# Altium integrated library Analog Devices Data Converters Digital-to-Analog Converters.IntLib: 2231 symbols (part 130 of 181)
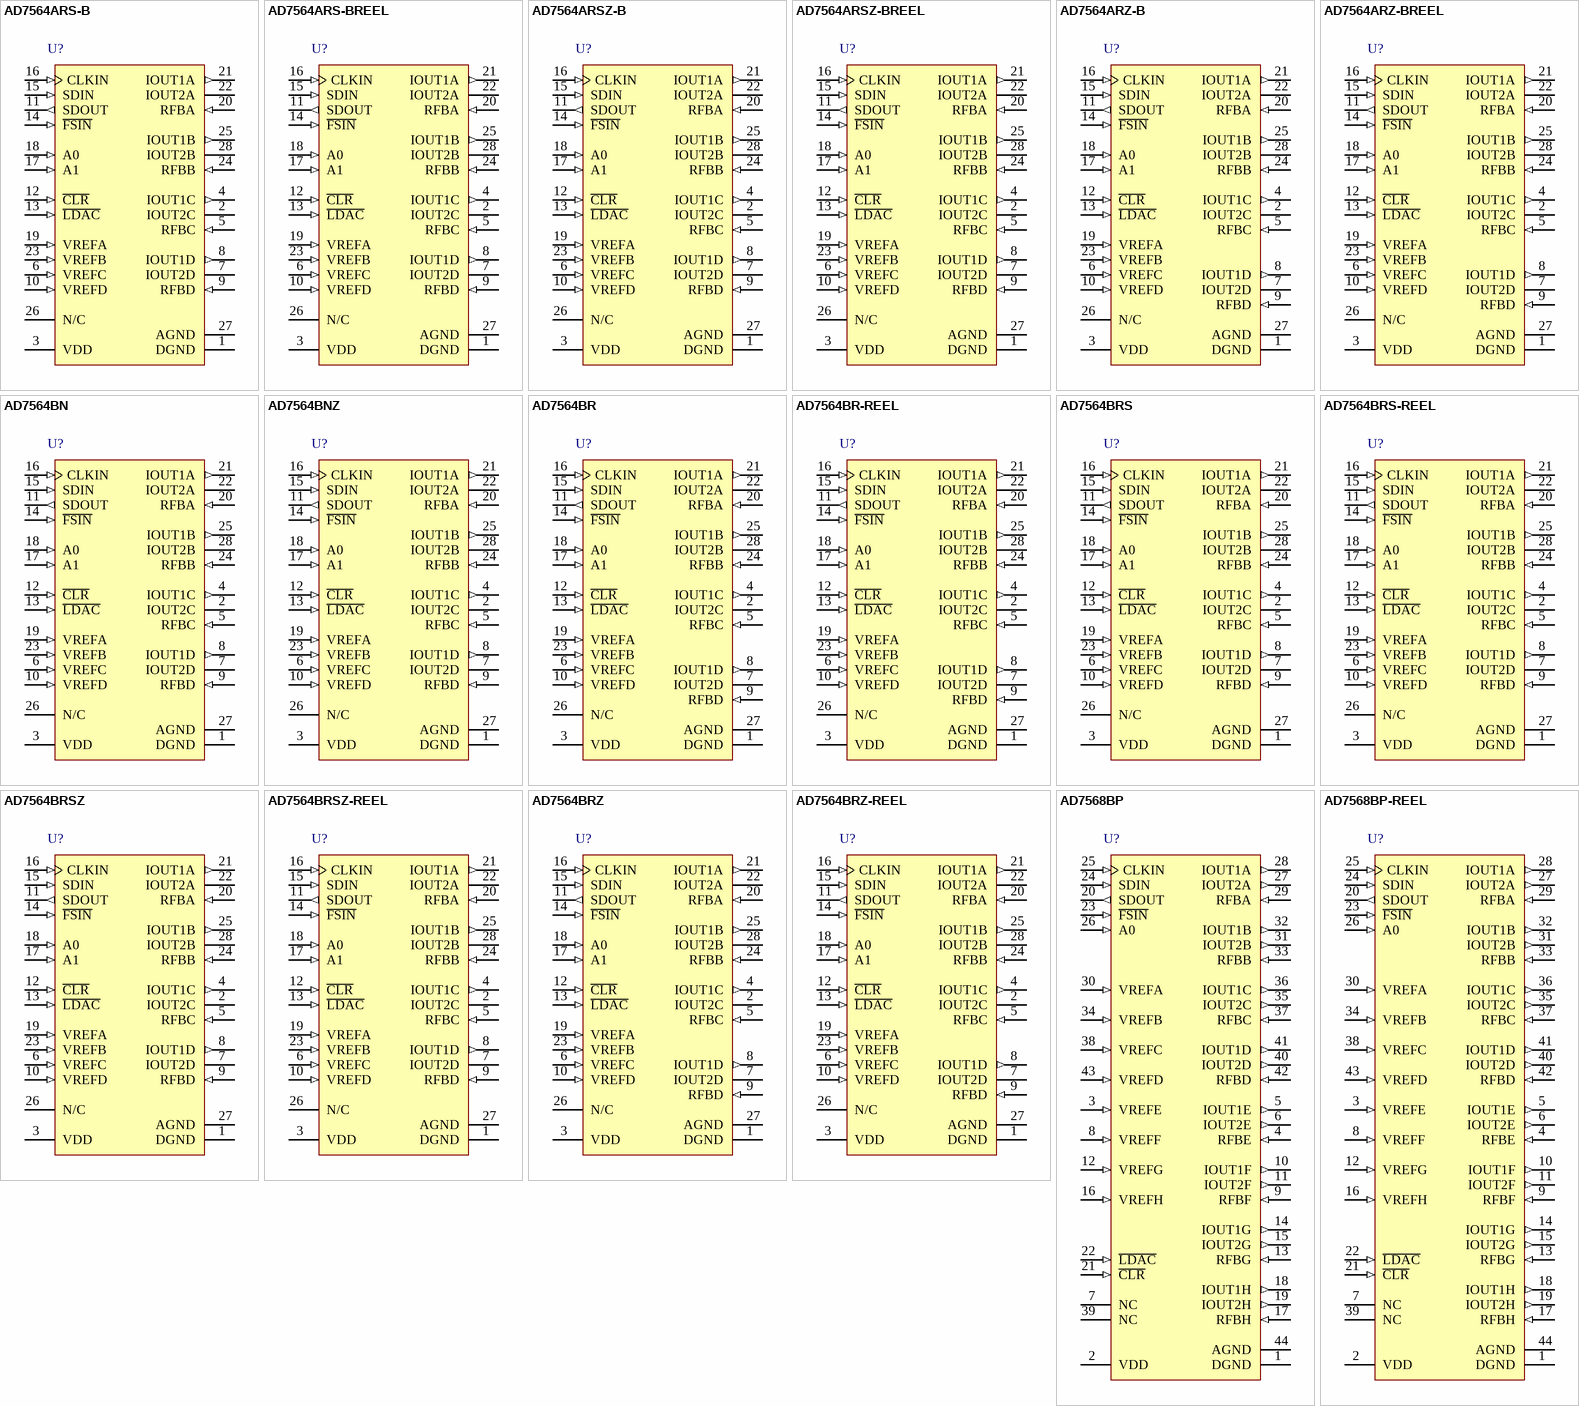
[diagram p243: symbols AD7564ARS-B to AD7568BP-REEL]

## AD7564ARSZ-B
designator U?
Quad 12-Bit Low Power Digital-to-Analog Converter, 3.3 V / 5 V, -40 to +85 degC, RS-28, Pb-Free, Tube; Generic Part Number: AD7564; Manufacturer: Analog Devices; PartNumber: AD7564ARSZ-B; # DAC Outputs: 4; Max V+: 5.5V; Op Pwr Diss: 50µW; Resolution (Bits): 12; Settling Time: 550ns; Single Supply: Yes; DatasheetVersion: Rev.B; PackageVersion: 060106-A; PackageReference: RS-28; PackageDescription: 28-Lead Shrink Small Outline Package [SSOP]; Supplier 1: Digi-Key; Supplier Part Number 1: AD7564ARSZ-B-ND; Supplier 2: Newark; Supplier Part Number 2: 59K5046; Supplier 3: Mouser; Supplier Part Number 3: 584-AD7564ARSZ-B; Packing: Tube; RoHS: Y; Mounting Technology: Surface Mount; Code_JEDEC: MO-150-AH; ComponentLink1Description: Manufacturer URL; ComponentLink1URL: http://www.analog.com/en/index.html; ComponentLink2Description: Datasheet; ComponentLink2URL: http://www.analog.com/static/imported-files/data_sheets/AD7564.pdf; ComponentLink3Description: Package Specification; ComponentLink3URL: http://www.analog.com/static/imported-files/packages/32122249223724RS_28.pdf; ComponentLink4Description: Product URL; ComponentLink4URL: http://www.analog.com/en/digital-to-analog-converters/da-converters/ad7564/products/product.html
footprint RS-28_N (SOP, 28-Leads, Body 10.2x5.3mm, Pitch 0.65mm, IPC Medium Density)
footprint RS-28_L (SOP, 28-Leads, Body 10.2x5.3mm, Pitch 0.65mm, IPC High Density)
footprint RS-28_M (SOP, 28-Leads, Body 10.2x5.3mm, Pitch 0.65mm, IPC Low Density)
pins: 1 DGND (power) "Digital Ground.", 2 IOUT2C "IOUT2 terminal for DAC C. This should normally connect to the signal ground of the system.", 3 VDD (power) "Positive power supply. This is +5 V +/- 5%.", 4 IOUT1C (out) "IOUT1 terminal for DAC C.", 5 RFBC (in) "Feedback resistor for DAC C.", 6 VREFC (in) "DAC C reference input.", 7 IOUT2D "IOUT2 terminal for DAC D. This should normally connect to the signal ground of the system.", 8 IOUT1D (out) "IOUT1 terminal for DAC D.", 9 RFBD (in) "Feedback resistor for DAC D.", 10 VREFD (in) "DAC D reference input.", 11 SDOUT (out) "This shift register output allows multiple devices to be connected in a daisy chain configuration.", 12 ~{CLR} (in) "Asynchronous C\L\R\ input. When this input is taken low, all DAC latches are loaded with all 0s.", 13 ~{LDAC} (in) "Asynchronous L\D\A\C\ input. When this input is taken low, all DAC latches are simultaneously updated with the contents of the input latches.", 14 ~{FSIN} (in) "Level-triggered control input (active low). This is the frame synchronization signal for the input data. When F\S\I\N\ goes low, it enables the input shift register, and data is transferred on the falling edges of CLKIN. If (See Datasheet)", 15 SDIN (in) "Serial data input. The device accepts a 16-bit word. DB0 and DB1 are DAC select bits. DB2 and DB3 are device address bits. DB4 to DB15 contain the 12-bit data to be loaded to the selected DAC.", 16 CLKIN (in) "Clock Input. Data is clocked into the input shift register on the falling edges of CLKIN. Add a pull-down resistor on the clock line to avoid timing issues.", 17 A1 (in) "Device address pin. This input in association with A0 gives the device an address. If DB2 and DB3 of the serial input stream do not correspond to this address, the data which follows is ignored and not loaded to any input (See Datasheet)", 18 A0 (in) "Device address pin. This input in association with A1 gives the device an address.", 19 VREFA (in) "DAC A reference input.", 20 RFBA (in) "Feedback resistor for DAC A.", 21 IOUT1A (out) "IOUT1 terminal for DAC A.", 22 IOUT2A "IOUT2 terminal for DAC A. This should normally connect to the signal ground of the system.", 23 VREFB (in) "DAC B reference input.", 24 RFBB (in) "Feedback resistor for DAC B.", 25 IOUT1B (out) "IOUT1 terminal for DAC B.", 26 N/C "No Connect pin.", 27 AGND (power) "This pin connects to the back gates of the current steering switches. It should be connected to the signal ground of the system.", 28 IOUT2B "IOUT2 terminal for DAC B. This should normally connect to the signal ground of the system."

## AD7564ARSZ-BREEL
designator U?
Quad 12-Bit Low Power Digital-to-Analog Converter, 3.3 V / 5 V, -40 to +85 degC, RS-28, Pb-Free, Reel; Generic Part Number: AD7564; Manufacturer: Analog Devices; PartNumber: AD7564ARSZ-BREEL; # DAC Outputs: 4; Max V+: 5.5V; Op Pwr Diss: 50µW; Resolution (Bits): 12; Settling Time: 550ns; Single Supply: Yes; DatasheetVersion: Rev.B; PackageVersion: 060106-A; PackageReference: RS-28; PackageDescription: 28-Lead Shrink Small Outline Package [SSOP]; Supplier 1: Digi-Key; Supplier Part Number 1: AD7564ARSZ-BREEL-ND; Supplier 2: Newark; Supplier Part Number 2: 59K5047; Supplier 3: Mouser; Supplier Part Number 3: 584-AD7564ARSZ-BR; Packing: Reel; RoHS: Y; Mounting Technology: Surface Mount; Code_JEDEC: MO-150-AH; ComponentLink1Description: Manufacturer URL; ComponentLink1URL: http://www.analog.com/en/index.html; ComponentLink2Description: Datasheet; ComponentLink2URL: http://www.analog.com/static/imported-files/data_sheets/AD7564.pdf; ComponentLink3Description: Package Specification; ComponentLink3URL: http://www.analog.com/static/imported-files/packages/32122249223724RS_28.pdf; ComponentLink4Description: Product URL; ComponentLink4URL: http://www.analog.com/en/digital-to-analog-converters/da-converters/ad7564/products/product.html
footprint RS-28_N (SOP, 28-Leads, Body 10.2x5.3mm, Pitch 0.65mm, IPC Medium Density)
footprint RS-28_L (SOP, 28-Leads, Body 10.2x5.3mm, Pitch 0.65mm, IPC High Density)
footprint RS-28_M (SOP, 28-Leads, Body 10.2x5.3mm, Pitch 0.65mm, IPC Low Density)
pins: 1 DGND (power) "Digital Ground.", 2 IOUT2C "IOUT2 terminal for DAC C. This should normally connect to the signal ground of the system.", 3 VDD (power) "Positive power supply. This is +5 V +/- 5%.", 4 IOUT1C (out) "IOUT1 terminal for DAC C.", 5 RFBC (in) "Feedback resistor for DAC C.", 6 VREFC (in) "DAC C reference input.", 7 IOUT2D "IOUT2 terminal for DAC D. This should normally connect to the signal ground of the system.", 8 IOUT1D (out) "IOUT1 terminal for DAC D.", 9 RFBD (in) "Feedback resistor for DAC D.", 10 VREFD (in) "DAC D reference input.", 11 SDOUT (out) "This shift register output allows multiple devices to be connected in a daisy chain configuration.", 12 ~{CLR} (in) "Asynchronous C\L\R\ input. When this input is taken low, all DAC latches are loaded with all 0s.", 13 ~{LDAC} (in) "Asynchronous L\D\A\C\ input. When this input is taken low, all DAC latches are simultaneously updated with the contents of the input latches.", 14 ~{FSIN} (in) "Level-triggered control input (active low). This is the frame synchronization signal for the input data. When F\S\I\N\ goes low, it enables the input shift register, and data is transferred on the falling edges of CLKIN. If (See Datasheet)", 15 SDIN (in) "Serial data input. The device accepts a 16-bit word. DB0 and DB1 are DAC select bits. DB2 and DB3 are device address bits. DB4 to DB15 contain the 12-bit data to be loaded to the selected DAC.", 16 CLKIN (in) "Clock Input. Data is clocked into the input shift register on the falling edges of CLKIN. Add a pull-down resistor on the clock line to avoid timing issues.", 17 A1 (in) "Device address pin. This input in association with A0 gives the device an address. If DB2 and DB3 of the serial input stream do not correspond to this address, the data which follows is ignored and not loaded to any input (See Datasheet)", 18 A0 (in) "Device address pin. This input in association with A1 gives the device an address.", 19 VREFA (in) "DAC A reference input.", 20 RFBA (in) "Feedback resistor for DAC A.", 21 IOUT1A (out) "IOUT1 terminal for DAC A.", 22 IOUT2A "IOUT2 terminal for DAC A. This should normally connect to the signal ground of the system.", 23 VREFB (in) "DAC B reference input.", 24 RFBB (in) "Feedback resistor for DAC B.", 25 IOUT1B (out) "IOUT1 terminal for DAC B.", 26 N/C "No Connect pin.", 27 AGND (power) "This pin connects to the back gates of the current steering switches. It should be connected to the signal ground of the system.", 28 IOUT2B "IOUT2 terminal for DAC B. This should normally connect to the signal ground of the system."

## AD7564ARZ-B
designator U?
Quad 12-Bit Low Power Digital-to-Analog Converter, 3.3 V / 5 V, 0 to 70 degC, RW-28, Pb-Free, Tube; Generic Part Number: AD7564; Manufacturer: Analog Devices; PartNumber: AD7564ARZ-B; # DAC Outputs: 4; Max V+: 5.5V; Op Pwr Diss: 50µW; Resolution (Bits): 12; Settling Time: 550ns; Single Supply: Yes; DatasheetVersion: Rev.B; PackageVersion: 060706-A; PackageReference: RW-28; PackageDescription: 28-Lead Standard Small Outline Package [SOIC_W]; Supplier 1: Digi-Key; Supplier Part Number 1: AD7564ARZ-B-ND; Supplier 2: Mouser; Supplier Part Number 2: 584-AD7564ARZ-B; Packing: Tube; RoHS: Y; Mounting Technology: Surface Mount; Code_JEDEC: MS-013-AE; ComponentLink1Description: Manufacturer URL; ComponentLink1URL: http://www.analog.com/en/index.html; ComponentLink2Description: Datasheet; ComponentLink2URL: http://www.analog.com/static/imported-files/data_sheets/AD7564.pdf; ComponentLink3Description: Product URL; ComponentLink3URL: http://www.analog.com/en/digital-to-analog-converters/da-converters/ad7564/products/product.html
footprint RW-28_N (SOIC, 28-Leads, Body 17.9x7.5mm, Pitch 1.27mm, IPC Medium Density)
footprint RW-28_L (SOIC, 28-Leads, Body 17.9x7.5mm, Pitch 1.27mm, IPC High Density)
footprint RW-28_M (SOIC, 28-Leads, Body 17.9x7.5mm, Pitch 1.27mm, IPC Low Density)
pins: 1 DGND (power) "Digital Ground.", 2 IOUT2C "IOUT2 terminal for DAC C. This should normally connect to the signal ground of the system.", 3 VDD (power) "Positive power supply. This is +5 V +/- 5%.", 4 IOUT1C (out) "IOUT1 terminal for DAC C.", 5 RFBC (in) "Feedback resistor for DAC C.", 6 VREFC (in) "DAC C reference input.", 7 IOUT2D "IOUT2 terminal for DAC D. This should normally connect to the signal ground of the system.", 8 IOUT1D (out) "IOUT1 terminal for DAC D.", 9 RFBD (in) "Feedback resistor for DAC D.", 10 VREFD (in) "DAC D reference input.", 11 SDOUT (out) "This shift register output allows multiple devices to be connected in a daisy chain configuration.", 12 ~{CLR} (in) "Asynchronous C\L\R\ input. When this input is taken low, all DAC latches are loaded with all 0s.", 13 ~{LDAC} (in) "Asynchronous L\D\A\C\ input. When this input is taken low, all DAC latches are simultaneously updated with the contents of the input latches.", 14 ~{FSIN} (in) "Level-triggered control input (active low). This is the frame synchronization signal for the input data. When F\S\I\N\ goes low, it enables the input shift register, and data is transferred on the falling edges of CLKIN. If (See Datasheet)", 15 SDIN (in) "Serial data input. The device accepts a 16-bit word. DB0 and DB1 are DAC select bits. DB2 and DB3 are device address bits. DB4 to DB15 contain the 12-bit data to be loaded to the selected DAC.", 16 CLKIN (in) "Clock Input. Data is clocked into the input shift register on the falling edges of CLKIN. Add a pull-down resistor on the clock line to avoid timing issues.", 17 A1 (in) "Device address pin. This input in association with A0 gives the device an address. If DB2 and DB3 of the serial input stream do not correspond to this address, the data which follows is ignored and not loaded to any input (See Datasheet)", 18 A0 (in) "Device address pin. This input in association with A1 gives the device an address.", 19 VREFA (in) "DAC A reference input.", 20 RFBA (in) "Feedback resistor for DAC A.", 21 IOUT1A (out) "IOUT1 terminal for DAC A.", 22 IOUT2A "IOUT2 terminal for DAC A. This should normally connect to the signal ground of the system.", 23 VREFB (in) "DAC B reference input.", 24 RFBB (in) "Feedback resistor for DAC B.", 25 IOUT1B (out) "IOUT1 terminal for DAC B.", 26 N/C "No Connect pin.", 27 AGND (power) "This pin connects to the back gates of the current steering switches. It should be connected to the signal ground of the system.", 28 IOUT2B "IOUT2 terminal for DAC B. This should normally connect to the signal ground of the system."

## AD7564ARZ-BREEL
designator U?
Quad 12-Bit Low Power Digital-to-Analog Converter, 3.3 V / 5 V, 0 to 70 degC, RW-28, Pb-Free, Reel; Generic Part Number: AD7564; Manufacturer: Analog Devices; PartNumber: AD7564ARZ-BREEL; # DAC Outputs: 4; Max V+: 5.5V; Op Pwr Diss: 50µW; Resolution (Bits): 12; Settling Time: 550ns; Single Supply: Yes; DatasheetVersion: Rev.B; PackageVersion: 060706-A; PackageReference: RW-28; PackageDescription: 28-Lead Standard Small Outline Package [SOIC_W]; Supplier 1: Digi-Key; Supplier Part Number 1: AD7564ARZ-BREEL-ND; Supplier 2: Mouser; Supplier Part Number 2: 584-AD7564ARZ-BR; Packing: Reel; RoHS: Y; Mounting Technology: Surface Mount; Code_JEDEC: MS-013-AE; ComponentLink1Description: Manufacturer URL; ComponentLink1URL: http://www.analog.com/en/index.html; ComponentLink2Description: Datasheet; ComponentLink2URL: http://www.analog.com/static/imported-files/data_sheets/AD7564.pdf; ComponentLink3Description: Product URL; ComponentLink3URL: http://www.analog.com/en/digital-to-analog-converters/da-converters/ad7564/products/product.html
footprint RW-28_N (SOIC, 28-Leads, Body 17.9x7.5mm, Pitch 1.27mm, IPC Medium Density)
footprint RW-28_L (SOIC, 28-Leads, Body 17.9x7.5mm, Pitch 1.27mm, IPC High Density)
footprint RW-28_M (SOIC, 28-Leads, Body 17.9x7.5mm, Pitch 1.27mm, IPC Low Density)
pins: 1 DGND (power) "Digital Ground.", 2 IOUT2C "IOUT2 terminal for DAC C. This should normally connect to the signal ground of the system.", 3 VDD (power) "Positive power supply. This is +5 V +/- 5%.", 4 IOUT1C (out) "IOUT1 terminal for DAC C.", 5 RFBC (in) "Feedback resistor for DAC C.", 6 VREFC (in) "DAC C reference input.", 7 IOUT2D "IOUT2 terminal for DAC D. This should normally connect to the signal ground of the system.", 8 IOUT1D (out) "IOUT1 terminal for DAC D.", 9 RFBD (in) "Feedback resistor for DAC D.", 10 VREFD (in) "DAC D reference input.", 11 SDOUT (out) "This shift register output allows multiple devices to be connected in a daisy chain configuration.", 12 ~{CLR} (in) "Asynchronous C\L\R\ input. When this input is taken low, all DAC latches are loaded with all 0s.", 13 ~{LDAC} (in) "Asynchronous L\D\A\C\ input. When this input is taken low, all DAC latches are simultaneously updated with the contents of the input latches.", 14 ~{FSIN} (in) "Level-triggered control input (active low). This is the frame synchronization signal for the input data. When F\S\I\N\ goes low, it enables the input shift register, and data is transferred on the falling edges of CLKIN. If (See Datasheet)", 15 SDIN (in) "Serial data input. The device accepts a 16-bit word. DB0 and DB1 are DAC select bits. DB2 and DB3 are device address bits. DB4 to DB15 contain the 12-bit data to be loaded to the selected DAC.", 16 CLKIN (in) "Clock Input. Data is clocked into the input shift register on the falling edges of CLKIN. Add a pull-down resistor on the clock line to avoid timing issues.", 17 A1 (in) "Device address pin. This input in association with A0 gives the device an address. If DB2 and DB3 of the serial input stream do not correspond to this address, the data which follows is ignored and not loaded to any input (See Datasheet)", 18 A0 (in) "Device address pin. This input in association with A1 gives the device an address.", 19 VREFA (in) "DAC A reference input.", 20 RFBA (in) "Feedback resistor for DAC A.", 21 IOUT1A (out) "IOUT1 terminal for DAC A.", 22 IOUT2A "IOUT2 terminal for DAC A. This should normally connect to the signal ground of the system.", 23 VREFB (in) "DAC B reference input.", 24 RFBB (in) "Feedback resistor for DAC B.", 25 IOUT1B (out) "IOUT1 terminal for DAC B.", 26 N/C "No Connect pin.", 27 AGND (power) "This pin connects to the back gates of the current steering switches. It should be connected to the signal ground of the system.", 28 IOUT2B "IOUT2 terminal for DAC B. This should normally connect to the signal ground of the system."

## AD7564BN
designator U?
Quad 12-Bit Low Power Digital-to-Analog Converter, 3.3 V / 5 V, -40 to +85 degC, N-28-2, Tube; Generic Part Number: AD7564; Manufacturer: Analog Devices; PartNumber: AD7564BN; # DAC Outputs: 4; Max V+: 5.5V; Op Pwr Diss: 50µW; Resolution (Bits): 12; Settling Time: 550ns; Single Supply: Yes; DatasheetVersion: Rev.B; PackageVersion: 071006-A; PackageReference: N-28-2; PackageDescription: 28-Lead Plastic Dual In-Line Package [PDIP]; Supplier 1: Digi-Key; Supplier Part Number 1: AD7564BN-ND; Supplier 2: Mouser; Supplier Part Number 2: 584-AD7564BN; Packing: Tube; RoHS: N; Mounting Technology: Through Hole; Code_JEDEC: MS-011; ComponentLink1Description: Manufacturer URL; ComponentLink1URL: http://www.analog.com/en/index.html; ComponentLink2Description: Datasheet; ComponentLink2URL: http://www.analog.com/static/imported-files/data_sheets/AD7564.pdf; ComponentLink3Description: Package Specification; ComponentLink3URL: http://www.analog.com/static/imported-files/packages/50849324123784N_28_2.pdf; ComponentLink4Description: Product URL; ComponentLink4URL: http://www.analog.com/en/digital-to-analog-converters/da-converters/ad7564/products/product.html
footprint N-28-2 (DIP, 28-Leads, Row Spacing 15.55mm, Pitch 2.54mm, Body 37.4x13.5mm)
pins: 1 DGND (power) "Digital Ground.", 2 IOUT2C "IOUT2 terminal for DAC C. This should normally connect to the signal ground of the system.", 3 VDD (power) "Positive power supply. This is +5 V +/- 5%.", 4 IOUT1C (out) "IOUT1 terminal for DAC C.", 5 RFBC (in) "Feedback resistor for DAC C.", 6 VREFC (in) "DAC C reference input.", 7 IOUT2D "IOUT2 terminal for DAC D. This should normally connect to the signal ground of the system.", 8 IOUT1D (out) "IOUT1 terminal for DAC D.", 9 RFBD (in) "Feedback resistor for DAC D.", 10 VREFD (in) "DAC D reference input.", 11 SDOUT (out) "This shift register output allows multiple devices to be connected in a daisy chain configuration.", 12 ~{CLR} (in) "Asynchronous C\L\R\ input. When this input is taken low, all DAC latches are loaded with all 0s.", 13 ~{LDAC} (in) "Asynchronous L\D\A\C\ input. When this input is taken low, all DAC latches are simultaneously updated with the contents of the input latches.", 14 ~{FSIN} (in) "Level-triggered control input (active low). This is the frame synchronization signal for the input data. When F\S\I\N\ goes low, it enables the input shift register, and data is transferred on the falling edges of CLKIN. If (See Datasheet)", 15 SDIN (in) "Serial data input. The device accepts a 16-bit word. DB0 and DB1 are DAC select bits. DB2 and DB3 are device address bits. DB4 to DB15 contain the 12-bit data to be loaded to the selected DAC.", 16 CLKIN (in) "Clock Input. Data is clocked into the input shift register on the falling edges of CLKIN. Add a pull-down resistor on the clock line to avoid timing issues.", 17 A1 (in) "Device address pin. This input in association with A0 gives the device an address. If DB2 and DB3 of the serial input stream do not correspond to this address, the data which follows is ignored and not loaded to any input (See Datasheet)", 18 A0 (in) "Device address pin. This input in association with A1 gives the device an address.", 19 VREFA (in) "DAC A reference input.", 20 RFBA (in) "Feedback resistor for DAC A.", 21 IOUT1A (out) "IOUT1 terminal for DAC A.", 22 IOUT2A "IOUT2 terminal for DAC A. This should normally connect to the signal ground of the system.", 23 VREFB (in) "DAC B reference input.", 24 RFBB (in) "Feedback resistor for DAC B.", 25 IOUT1B (out) "IOUT1 terminal for DAC B.", 26 N/C "No Connect pin.", 27 AGND (power) "This pin connects to the back gates of the current steering switches. It should be connected to the signal ground of the system.", 28 IOUT2B "IOUT2 terminal for DAC B. This should normally connect to the signal ground of the system."

## AD7564BNZ
designator U?
Quad 12-Bit Low Power Digital-to-Analog Converter, 3.3 V / 5 V, -40 to +85 degC, N-28-2, Pb-Free, Tube; Generic Part Number: AD7564; Manufacturer: Analog Devices; PartNumber: AD7564BNZ; # DAC Outputs: 4; Max V+: 5.5V; Op Pwr Diss: 50µW; Resolution (Bits): 12; Settling Time: 550ns; Single Supply: Yes; DatasheetVersion: Rev.B; PackageVersion: 071006-A; PackageReference: N-28-2; PackageDescription: 28-Lead Plastic Dual In-Line Package [PDIP]; Supplier 1: Digi-Key; Supplier Part Number 1: AD7564BNZ-ND; Supplier 2: Newark; Supplier Part Number 2: 12M8857; Supplier 3: Mouser; Supplier Part Number 3: 584-AD7564BNZ; Packing: Tube; RoHS: Y; Mounting Technology: Through Hole; Code_JEDEC: MS-011; ComponentLink1Description: Manufacturer URL; ComponentLink1URL: http://www.analog.com/en/index.html; ComponentLink2Description: Datasheet; ComponentLink2URL: http://www.analog.com/static/imported-files/data_sheets/AD7564.pdf; ComponentLink3Description: Package Specification; ComponentLink3URL: http://www.analog.com/static/imported-files/packages/50849324123784N_28_2.pdf; ComponentLink4Description: Product URL; ComponentLink4URL: http://www.analog.com/en/digital-to-analog-converters/da-converters/ad7564/products/product.html
footprint N-28-2 (DIP, 28-Leads, Row Spacing 15.55mm, Pitch 2.54mm, Body 37.4x13.5mm)
pins: 1 DGND (power) "Digital Ground.", 2 IOUT2C "IOUT2 terminal for DAC C. This should normally connect to the signal ground of the system.", 3 VDD (power) "Positive power supply. This is +5 V +/- 5%.", 4 IOUT1C (out) "IOUT1 terminal for DAC C.", 5 RFBC (in) "Feedback resistor for DAC C.", 6 VREFC (in) "DAC C reference input.", 7 IOUT2D "IOUT2 terminal for DAC D. This should normally connect to the signal ground of the system.", 8 IOUT1D (out) "IOUT1 terminal for DAC D.", 9 RFBD (in) "Feedback resistor for DAC D.", 10 VREFD (in) "DAC D reference input.", 11 SDOUT (out) "This shift register output allows multiple devices to be connected in a daisy chain configuration.", 12 ~{CLR} (in) "Asynchronous C\L\R\ input. When this input is taken low, all DAC latches are loaded with all 0s.", 13 ~{LDAC} (in) "Asynchronous L\D\A\C\ input. When this input is taken low, all DAC latches are simultaneously updated with the contents of the input latches.", 14 ~{FSIN} (in) "Level-triggered control input (active low). This is the frame synchronization signal for the input data. When F\S\I\N\ goes low, it enables the input shift register, and data is transferred on the falling edges of CLKIN. If (See Datasheet)", 15 SDIN (in) "Serial data input. The device accepts a 16-bit word. DB0 and DB1 are DAC select bits. DB2 and DB3 are device address bits. DB4 to DB15 contain the 12-bit data to be loaded to the selected DAC.", 16 CLKIN (in) "Clock Input. Data is clocked into the input shift register on the falling edges of CLKIN. Add a pull-down resistor on the clock line to avoid timing issues.", 17 A1 (in) "Device address pin. This input in association with A0 gives the device an address. If DB2 and DB3 of the serial input stream do not correspond to this address, the data which follows is ignored and not loaded to any input (See Datasheet)", 18 A0 (in) "Device address pin. This input in association with A1 gives the device an address.", 19 VREFA (in) "DAC A reference input.", 20 RFBA (in) "Feedback resistor for DAC A.", 21 IOUT1A (out) "IOUT1 terminal for DAC A.", 22 IOUT2A "IOUT2 terminal for DAC A. This should normally connect to the signal ground of the system.", 23 VREFB (in) "DAC B reference input.", 24 RFBB (in) "Feedback resistor for DAC B.", 25 IOUT1B (out) "IOUT1 terminal for DAC B.", 26 N/C "No Connect pin.", 27 AGND (power) "This pin connects to the back gates of the current steering switches. It should be connected to the signal ground of the system.", 28 IOUT2B "IOUT2 terminal for DAC B. This should normally connect to the signal ground of the system."

## AD7564BR
designator U?
Quad 12-Bit Low Power Digital-to-Analog Converter, 3.3 V / 5 V, 0 to 70 degC, RW-28, Tube; Generic Part Number: AD7564; Manufacturer: Analog Devices; PartNumber: AD7564BR; # DAC Outputs: 4; Max V+: 5.5V; Op Pwr Diss: 50µW; Resolution (Bits): 12; Settling Time: 550ns; Single Supply: Yes; DatasheetVersion: Rev.B; PackageVersion: 060706-A; PackageReference: RW-28; PackageDescription: 28-Lead Standard Small Outline Package [SOIC_W]; Supplier 1: Digi-Key; Supplier Part Number 1: AD7564BR-ND; Supplier 2: Mouser; Supplier Part Number 2: 584-AD7564BR; Packing: Tube; RoHS: N; Mounting Technology: Surface Mount; Code_JEDEC: MS-013-AE; ComponentLink1Description: Manufacturer URL; ComponentLink1URL: http://www.analog.com/en/index.html; ComponentLink2Description: Datasheet; ComponentLink2URL: http://www.analog.com/static/imported-files/data_sheets/AD7564.pdf; ComponentLink3Description: Product URL; ComponentLink3URL: http://www.analog.com/en/digital-to-analog-converters/da-converters/ad7564/products/product.html
footprint RW-28_N (SOIC, 28-Leads, Body 17.9x7.5mm, Pitch 1.27mm, IPC Medium Density)
footprint RW-28_L (SOIC, 28-Leads, Body 17.9x7.5mm, Pitch 1.27mm, IPC High Density)
footprint RW-28_M (SOIC, 28-Leads, Body 17.9x7.5mm, Pitch 1.27mm, IPC Low Density)
pins: 1 DGND (power) "Digital Ground.", 2 IOUT2C "IOUT2 terminal for DAC C. This should normally connect to the signal ground of the system.", 3 VDD (power) "Positive power supply. This is +5 V +/- 5%.", 4 IOUT1C (out) "IOUT1 terminal for DAC C.", 5 RFBC (in) "Feedback resistor for DAC C.", 6 VREFC (in) "DAC C reference input.", 7 IOUT2D "IOUT2 terminal for DAC D. This should normally connect to the signal ground of the system.", 8 IOUT1D (out) "IOUT1 terminal for DAC D.", 9 RFBD (in) "Feedback resistor for DAC D.", 10 VREFD (in) "DAC D reference input.", 11 SDOUT (out) "This shift register output allows multiple devices to be connected in a daisy chain configuration.", 12 ~{CLR} (in) "Asynchronous C\L\R\ input. When this input is taken low, all DAC latches are loaded with all 0s.", 13 ~{LDAC} (in) "Asynchronous L\D\A\C\ input. When this input is taken low, all DAC latches are simultaneously updated with the contents of the input latches.", 14 ~{FSIN} (in) "Level-triggered control input (active low). This is the frame synchronization signal for the input data. When F\S\I\N\ goes low, it enables the input shift register, and data is transferred on the falling edges of CLKIN. If (See Datasheet)", 15 SDIN (in) "Serial data input. The device accepts a 16-bit word. DB0 and DB1 are DAC select bits. DB2 and DB3 are device address bits. DB4 to DB15 contain the 12-bit data to be loaded to the selected DAC.", 16 CLKIN (in) "Clock Input. Data is clocked into the input shift register on the falling edges of CLKIN. Add a pull-down resistor on the clock line to avoid timing issues.", 17 A1 (in) "Device address pin. This input in association with A0 gives the device an address. If DB2 and DB3 of the serial input stream do not correspond to this address, the data which follows is ignored and not loaded to any input (See Datasheet)", 18 A0 (in) "Device address pin. This input in association with A1 gives the device an address.", 19 VREFA (in) "DAC A reference input.", 20 RFBA (in) "Feedback resistor for DAC A.", 21 IOUT1A (out) "IOUT1 terminal for DAC A.", 22 IOUT2A "IOUT2 terminal for DAC A. This should normally connect to the signal ground of the system.", 23 VREFB (in) "DAC B reference input.", 24 RFBB (in) "Feedback resistor for DAC B.", 25 IOUT1B (out) "IOUT1 terminal for DAC B.", 26 N/C "No Connect pin.", 27 AGND (power) "This pin connects to the back gates of the current steering switches. It should be connected to the signal ground of the system.", 28 IOUT2B "IOUT2 terminal for DAC B. This should normally connect to the signal ground of the system."

## AD7564BR-REEL
designator U?
Quad 12-Bit Low Power Digital-to-Analog Converter, 3.3 V / 5 V, 0 to 70 degC, RW-28, Reel; Generic Part Number: AD7564; Manufacturer: Analog Devices; PartNumber: AD7564BR-REEL; # DAC Outputs: 4; Max V+: 5.5V; Op Pwr Diss: 50µW; Resolution (Bits): 12; Settling Time: 550ns; Single Supply: Yes; DatasheetVersion: Rev.B; PackageVersion: 060706-A; PackageReference: RW-28; PackageDescription: 28-Lead Standard Small Outline Package [SOIC_W]; Supplier 1: Digi-Key; Supplier Part Number 1: AD7564BR-REEL-ND; Supplier 2: Newark; Supplier Part Number 2: 09B5834; Supplier 3: Mouser; Supplier Part Number 3: 584-AD7564BR-R; Packing: Reel; RoHS: N; Mounting Technology: Surface Mount; Code_JEDEC: MS-013-AE; ComponentLink1Description: Manufacturer URL; ComponentLink1URL: http://www.analog.com/en/index.html; ComponentLink2Description: Datasheet; ComponentLink2URL: http://www.analog.com/static/imported-files/data_sheets/AD7564.pdf; ComponentLink3Description: Product URL; ComponentLink3URL: http://www.analog.com/en/digital-to-analog-converters/da-converters/ad7564/products/product.html
footprint RW-28_N (SOIC, 28-Leads, Body 17.9x7.5mm, Pitch 1.27mm, IPC Medium Density)
footprint RW-28_L (SOIC, 28-Leads, Body 17.9x7.5mm, Pitch 1.27mm, IPC High Density)
footprint RW-28_M (SOIC, 28-Leads, Body 17.9x7.5mm, Pitch 1.27mm, IPC Low Density)
pins: 1 DGND (power) "Digital Ground.", 2 IOUT2C "IOUT2 terminal for DAC C. This should normally connect to the signal ground of the system.", 3 VDD (power) "Positive power supply. This is +5 V +/- 5%.", 4 IOUT1C (out) "IOUT1 terminal for DAC C.", 5 RFBC (in) "Feedback resistor for DAC C.", 6 VREFC (in) "DAC C reference input.", 7 IOUT2D "IOUT2 terminal for DAC D. This should normally connect to the signal ground of the system.", 8 IOUT1D (out) "IOUT1 terminal for DAC D.", 9 RFBD (in) "Feedback resistor for DAC D.", 10 VREFD (in) "DAC D reference input.", 11 SDOUT (out) "This shift register output allows multiple devices to be connected in a daisy chain configuration.", 12 ~{CLR} (in) "Asynchronous C\L\R\ input. When this input is taken low, all DAC latches are loaded with all 0s.", 13 ~{LDAC} (in) "Asynchronous L\D\A\C\ input. When this input is taken low, all DAC latches are simultaneously updated with the contents of the input latches.", 14 ~{FSIN} (in) "Level-triggered control input (active low). This is the frame synchronization signal for the input data. When F\S\I\N\ goes low, it enables the input shift register, and data is transferred on the falling edges of CLKIN. If (See Datasheet)", 15 SDIN (in) "Serial data input. The device accepts a 16-bit word. DB0 and DB1 are DAC select bits. DB2 and DB3 are device address bits. DB4 to DB15 contain the 12-bit data to be loaded to the selected DAC.", 16 CLKIN (in) "Clock Input. Data is clocked into the input shift register on the falling edges of CLKIN. Add a pull-down resistor on the clock line to avoid timing issues.", 17 A1 (in) "Device address pin. This input in association with A0 gives the device an address. If DB2 and DB3 of the serial input stream do not correspond to this address, the data which follows is ignored and not loaded to any input (See Datasheet)", 18 A0 (in) "Device address pin. This input in association with A1 gives the device an address.", 19 VREFA (in) "DAC A reference input.", 20 RFBA (in) "Feedback resistor for DAC A.", 21 IOUT1A (out) "IOUT1 terminal for DAC A.", 22 IOUT2A "IOUT2 terminal for DAC A. This should normally connect to the signal ground of the system.", 23 VREFB (in) "DAC B reference input.", 24 RFBB (in) "Feedback resistor for DAC B.", 25 IOUT1B (out) "IOUT1 terminal for DAC B.", 26 N/C "No Connect pin.", 27 AGND (power) "This pin connects to the back gates of the current steering switches. It should be connected to the signal ground of the system.", 28 IOUT2B "IOUT2 terminal for DAC B. This should normally connect to the signal ground of the system."

## AD7564BRS
designator U?
Quad 12-Bit Low Power Digital-to-Analog Converter, 3.3 V / 5 V, 0 to 70 degC, RS-28, Tube; Generic Part Number: AD7564; Manufacturer: Analog Devices; PartNumber: AD7564BRS; # DAC Outputs: 4; Max V+: 5.5V; Op Pwr Diss: 50µW; Resolution (Bits): 12; Settling Time: 550ns; Single Supply: Yes; DatasheetVersion: Rev.B; PackageVersion: 060106-A; PackageReference: RS-28; PackageDescription: 28-Lead Shrink Small Outline Package [SSOP]; Supplier 1: Digi-Key; Supplier Part Number 1: AD7564BRS-ND; Supplier 2: Mouser; Supplier Part Number 2: 584-AD7564BRS; Packing: Tube; RoHS: N; Mounting Technology: Surface Mount; Code_JEDEC: MO-150-AH; ComponentLink1Description: Manufacturer URL; ComponentLink1URL: http://www.analog.com/en/index.html; ComponentLink2Description: Datasheet; ComponentLink2URL: http://www.analog.com/static/imported-files/data_sheets/AD7564.pdf; ComponentLink3Description: Package Specification; ComponentLink3URL: http://www.analog.com/static/imported-files/packages/32122249223724RS_28.pdf; ComponentLink4Description: Product URL; ComponentLink4URL: http://www.analog.com/en/digital-to-analog-converters/da-converters/ad7564/products/product.html
footprint RS-28_N (SOP, 28-Leads, Body 10.2x5.3mm, Pitch 0.65mm, IPC Medium Density)
footprint RS-28_L (SOP, 28-Leads, Body 10.2x5.3mm, Pitch 0.65mm, IPC High Density)
footprint RS-28_M (SOP, 28-Leads, Body 10.2x5.3mm, Pitch 0.65mm, IPC Low Density)
pins: 1 DGND (power) "Digital Ground.", 2 IOUT2C "IOUT2 terminal for DAC C. This should normally connect to the signal ground of the system.", 3 VDD (power) "Positive power supply. This is +5 V +/- 5%.", 4 IOUT1C (out) "IOUT1 terminal for DAC C.", 5 RFBC (in) "Feedback resistor for DAC C.", 6 VREFC (in) "DAC C reference input.", 7 IOUT2D "IOUT2 terminal for DAC D. This should normally connect to the signal ground of the system.", 8 IOUT1D (out) "IOUT1 terminal for DAC D.", 9 RFBD (in) "Feedback resistor for DAC D.", 10 VREFD (in) "DAC D reference input.", 11 SDOUT (out) "This shift register output allows multiple devices to be connected in a daisy chain configuration.", 12 ~{CLR} (in) "Asynchronous C\L\R\ input. When this input is taken low, all DAC latches are loaded with all 0s.", 13 ~{LDAC} (in) "Asynchronous L\D\A\C\ input. When this input is taken low, all DAC latches are simultaneously updated with the contents of the input latches.", 14 ~{FSIN} (in) "Level-triggered control input (active low). This is the frame synchronization signal for the input data. When F\S\I\N\ goes low, it enables the input shift register, and data is transferred on the falling edges of CLKIN. If (See Datasheet)", 15 SDIN (in) "Serial data input. The device accepts a 16-bit word. DB0 and DB1 are DAC select bits. DB2 and DB3 are device address bits. DB4 to DB15 contain the 12-bit data to be loaded to the selected DAC.", 16 CLKIN (in) "Clock Input. Data is clocked into the input shift register on the falling edges of CLKIN. Add a pull-down resistor on the clock line to avoid timing issues.", 17 A1 (in) "Device address pin. This input in association with A0 gives the device an address. If DB2 and DB3 of the serial input stream do not correspond to this address, the data which follows is ignored and not loaded to any input (See Datasheet)", 18 A0 (in) "Device address pin. This input in association with A1 gives the device an address.", 19 VREFA (in) "DAC A reference input.", 20 RFBA (in) "Feedback resistor for DAC A.", 21 IOUT1A (out) "IOUT1 terminal for DAC A.", 22 IOUT2A "IOUT2 terminal for DAC A. This should normally connect to the signal ground of the system.", 23 VREFB (in) "DAC B reference input.", 24 RFBB (in) "Feedback resistor for DAC B.", 25 IOUT1B (out) "IOUT1 terminal for DAC B.", 26 N/C "No Connect pin.", 27 AGND (power) "This pin connects to the back gates of the current steering switches. It should be connected to the signal ground of the system.", 28 IOUT2B "IOUT2 terminal for DAC B. This should normally connect to the signal ground of the system."

## AD7564BRS-REEL
designator U?
Quad 12-Bit Low Power Digital-to-Analog Converter, 3.3 V / 5 V, 0 to 70 degC, RS-28, Reel; Generic Part Number: AD7564; Manufacturer: Analog Devices; PartNumber: AD7564BRS-REEL; # DAC Outputs: 4; Max V+: 5.5V; Op Pwr Diss: 50µW; Resolution (Bits): 12; Settling Time: 550ns; Single Supply: Yes; DatasheetVersion: Rev.B; PackageVersion: 060106-A; PackageReference: RS-28; PackageDescription: 28-Lead Shrink Small Outline Package [SSOP]; Supplier 1: Digi-Key; Supplier Part Number 1: AD7564BRS-REEL-ND; Supplier 2: Mouser; Supplier Part Number 2: 584-AD7564BRS-R; Packing: Reel; RoHS: N; Mounting Technology: Surface Mount; Code_JEDEC: MO-150-AH; ComponentLink1Description: Manufacturer URL; ComponentLink1URL: http://www.analog.com/en/index.html; ComponentLink2Description: Datasheet; ComponentLink2URL: http://www.analog.com/static/imported-files/data_sheets/AD7564.pdf; ComponentLink3Description: Package Specification; ComponentLink3URL: http://www.analog.com/static/imported-files/packages/32122249223724RS_28.pdf; ComponentLink4Description: Product URL; ComponentLink4URL: http://www.analog.com/en/digital-to-analog-converters/da-converters/ad7564/products/product.html
footprint RS-28_N (SOP, 28-Leads, Body 10.2x5.3mm, Pitch 0.65mm, IPC Medium Density)
footprint RS-28_L (SOP, 28-Leads, Body 10.2x5.3mm, Pitch 0.65mm, IPC High Density)
footprint RS-28_M (SOP, 28-Leads, Body 10.2x5.3mm, Pitch 0.65mm, IPC Low Density)
pins: 1 DGND (power) "Digital Ground.", 2 IOUT2C "IOUT2 terminal for DAC C. This should normally connect to the signal ground of the system.", 3 VDD (power) "Positive power supply. This is +5 V +/- 5%.", 4 IOUT1C (out) "IOUT1 terminal for DAC C.", 5 RFBC (in) "Feedback resistor for DAC C.", 6 VREFC (in) "DAC C reference input.", 7 IOUT2D "IOUT2 terminal for DAC D. This should normally connect to the signal ground of the system.", 8 IOUT1D (out) "IOUT1 terminal for DAC D.", 9 RFBD (in) "Feedback resistor for DAC D.", 10 VREFD (in) "DAC D reference input.", 11 SDOUT (out) "This shift register output allows multiple devices to be connected in a daisy chain configuration.", 12 ~{CLR} (in) "Asynchronous C\L\R\ input. When this input is taken low, all DAC latches are loaded with all 0s.", 13 ~{LDAC} (in) "Asynchronous L\D\A\C\ input. When this input is taken low, all DAC latches are simultaneously updated with the contents of the input latches.", 14 ~{FSIN} (in) "Level-triggered control input (active low). This is the frame synchronization signal for the input data. When F\S\I\N\ goes low, it enables the input shift register, and data is transferred on the falling edges of CLKIN. If (See Datasheet)", 15 SDIN (in) "Serial data input. The device accepts a 16-bit word. DB0 and DB1 are DAC select bits. DB2 and DB3 are device address bits. DB4 to DB15 contain the 12-bit data to be loaded to the selected DAC.", 16 CLKIN (in) "Clock Input. Data is clocked into the input shift register on the falling edges of CLKIN. Add a pull-down resistor on the clock line to avoid timing issues.", 17 A1 (in) "Device address pin. This input in association with A0 gives the device an address. If DB2 and DB3 of the serial input stream do not correspond to this address, the data which follows is ignored and not loaded to any input (See Datasheet)", 18 A0 (in) "Device address pin. This input in association with A1 gives the device an address.", 19 VREFA (in) "DAC A reference input.", 20 RFBA (in) "Feedback resistor for DAC A.", 21 IOUT1A (out) "IOUT1 terminal for DAC A.", 22 IOUT2A "IOUT2 terminal for DAC A. This should normally connect to the signal ground of the system.", 23 VREFB (in) "DAC B reference input.", 24 RFBB (in) "Feedback resistor for DAC B.", 25 IOUT1B (out) "IOUT1 terminal for DAC B.", 26 N/C "No Connect pin.", 27 AGND (power) "This pin connects to the back gates of the current steering switches. It should be connected to the signal ground of the system.", 28 IOUT2B "IOUT2 terminal for DAC B. This should normally connect to the signal ground of the system."

## AD7564BRSZ
designator U?
Quad 12-Bit Low Power Digital-to-Analog Converter, 3.3 V / 5 V, 0 to 70 degC, RS-28, Pb-Free, Tube; Generic Part Number: AD7564; Manufacturer: Analog Devices; PartNumber: AD7564BRSZ; # DAC Outputs: 4; Max V+: 5.5V; Op Pwr Diss: 50µW; Resolution (Bits): 12; Settling Time: 550ns; Single Supply: Yes; DatasheetVersion: Rev.B; PackageVersion: 060106-A; PackageReference: RS-28; PackageDescription: 28-Lead Shrink Small Outline Package [SSOP]; Supplier 1: Digi-Key; Supplier Part Number 1: AD7564BRSZ-ND; Supplier 2: Farnell; Supplier Part Number 2: 2305685; Supplier 3: Newark; Supplier Part Number 3: 59K5050; Supplier 4: Mouser; Supplier Part Number 4: 584-AD7564BRSZ; Packing: Tube; RoHS: Y; Mounting Technology: Surface Mount; Code_JEDEC: MO-150-AH; ComponentLink1Description: Manufacturer URL; ComponentLink1URL: http://www.analog.com/en/index.html; ComponentLink2Description: Datasheet; ComponentLink2URL: http://www.analog.com/static/imported-files/data_sheets/AD7564.pdf; ComponentLink3Description: Package Specification; ComponentLink3URL: http://www.analog.com/static/imported-files/packages/32122249223724RS_28.pdf; ComponentLink4Description: Product URL; ComponentLink4URL: http://www.analog.com/en/digital-to-analog-converters/da-converters/ad7564/products/product.html
footprint RS-28_N (SOP, 28-Leads, Body 10.2x5.3mm, Pitch 0.65mm, IPC Medium Density)
footprint RS-28_L (SOP, 28-Leads, Body 10.2x5.3mm, Pitch 0.65mm, IPC High Density)
footprint RS-28_M (SOP, 28-Leads, Body 10.2x5.3mm, Pitch 0.65mm, IPC Low Density)
pins: 1 DGND (power) "Digital Ground.", 2 IOUT2C "IOUT2 terminal for DAC C. This should normally connect to the signal ground of the system.", 3 VDD (power) "Positive power supply. This is +5 V +/- 5%.", 4 IOUT1C (out) "IOUT1 terminal for DAC C.", 5 RFBC (in) "Feedback resistor for DAC C.", 6 VREFC (in) "DAC C reference input.", 7 IOUT2D "IOUT2 terminal for DAC D. This should normally connect to the signal ground of the system.", 8 IOUT1D (out) "IOUT1 terminal for DAC D.", 9 RFBD (in) "Feedback resistor for DAC D.", 10 VREFD (in) "DAC D reference input.", 11 SDOUT (out) "This shift register output allows multiple devices to be connected in a daisy chain configuration.", 12 ~{CLR} (in) "Asynchronous C\L\R\ input. When this input is taken low, all DAC latches are loaded with all 0s.", 13 ~{LDAC} (in) "Asynchronous L\D\A\C\ input. When this input is taken low, all DAC latches are simultaneously updated with the contents of the input latches.", 14 ~{FSIN} (in) "Level-triggered control input (active low). This is the frame synchronization signal for the input data. When F\S\I\N\ goes low, it enables the input shift register, and data is transferred on the falling edges of CLKIN. If (See Datasheet)", 15 SDIN (in) "Serial data input. The device accepts a 16-bit word. DB0 and DB1 are DAC select bits. DB2 and DB3 are device address bits. DB4 to DB15 contain the 12-bit data to be loaded to the selected DAC.", 16 CLKIN (in) "Clock Input. Data is clocked into the input shift register on the falling edges of CLKIN. Add a pull-down resistor on the clock line to avoid timing issues.", 17 A1 (in) "Device address pin. This input in association with A0 gives the device an address. If DB2 and DB3 of the serial input stream do not correspond to this address, the data which follows is ignored and not loaded to any input (See Datasheet)", 18 A0 (in) "Device address pin. This input in association with A1 gives the device an address.", 19 VREFA (in) "DAC A reference input.", 20 RFBA (in) "Feedback resistor for DAC A.", 21 IOUT1A (out) "IOUT1 terminal for DAC A.", 22 IOUT2A "IOUT2 terminal for DAC A. This should normally connect to the signal ground of the system.", 23 VREFB (in) "DAC B reference input.", 24 RFBB (in) "Feedback resistor for DAC B.", 25 IOUT1B (out) "IOUT1 terminal for DAC B.", 26 N/C "No Connect pin.", 27 AGND (power) "This pin connects to the back gates of the current steering switches. It should be connected to the signal ground of the system.", 28 IOUT2B "IOUT2 terminal for DAC B. This should normally connect to the signal ground of the system."

## AD7564BRSZ-REEL
designator U?
Quad 12-Bit Low Power Digital-to-Analog Converter, 3.3 V / 5 V, 0 to 70 degC, RS-28, Pb-Free, Reel; Generic Part Number: AD7564; Manufacturer: Analog Devices; PartNumber: AD7564BRSZ-REEL; # DAC Outputs: 4; Max V+: 5.5V; Op Pwr Diss: 50µW; Resolution (Bits): 12; Settling Time: 550ns; Single Supply: Yes; DatasheetVersion: Rev.B; PackageVersion: 060106-A; PackageReference: RS-28; PackageDescription: 28-Lead Shrink Small Outline Package [SSOP]; Supplier 1: Digi-Key; Supplier Part Number 1: AD7564BRSZ-REEL-ND; Supplier 2: Newark; Supplier Part Number 2: 59K5051; Supplier 3: Mouser; Supplier Part Number 3: 584-AD7564BRSZ-R; Packing: Reel; RoHS: Y; Mounting Technology: Surface Mount; Code_JEDEC: MO-150-AH; ComponentLink1Description: Manufacturer URL; ComponentLink1URL: http://www.analog.com/en/index.html; ComponentLink2Description: Datasheet; ComponentLink2URL: http://www.analog.com/static/imported-files/data_sheets/AD7564.pdf; ComponentLink3Description: Package Specification; ComponentLink3URL: http://www.analog.com/static/imported-files/packages/32122249223724RS_28.pdf; ComponentLink4Description: Product URL; ComponentLink4URL: http://www.analog.com/en/digital-to-analog-converters/da-converters/ad7564/products/product.html
footprint RS-28_N (SOP, 28-Leads, Body 10.2x5.3mm, Pitch 0.65mm, IPC Medium Density)
footprint RS-28_L (SOP, 28-Leads, Body 10.2x5.3mm, Pitch 0.65mm, IPC High Density)
footprint RS-28_M (SOP, 28-Leads, Body 10.2x5.3mm, Pitch 0.65mm, IPC Low Density)
pins: 1 DGND (power) "Digital Ground.", 2 IOUT2C "IOUT2 terminal for DAC C. This should normally connect to the signal ground of the system.", 3 VDD (power) "Positive power supply. This is +5 V +/- 5%.", 4 IOUT1C (out) "IOUT1 terminal for DAC C.", 5 RFBC (in) "Feedback resistor for DAC C.", 6 VREFC (in) "DAC C reference input.", 7 IOUT2D "IOUT2 terminal for DAC D. This should normally connect to the signal ground of the system.", 8 IOUT1D (out) "IOUT1 terminal for DAC D.", 9 RFBD (in) "Feedback resistor for DAC D.", 10 VREFD (in) "DAC D reference input.", 11 SDOUT (out) "This shift register output allows multiple devices to be connected in a daisy chain configuration.", 12 ~{CLR} (in) "Asynchronous C\L\R\ input. When this input is taken low, all DAC latches are loaded with all 0s.", 13 ~{LDAC} (in) "Asynchronous L\D\A\C\ input. When this input is taken low, all DAC latches are simultaneously updated with the contents of the input latches.", 14 ~{FSIN} (in) "Level-triggered control input (active low). This is the frame synchronization signal for the input data. When F\S\I\N\ goes low, it enables the input shift register, and data is transferred on the falling edges of CLKIN. If (See Datasheet)", 15 SDIN (in) "Serial data input. The device accepts a 16-bit word. DB0 and DB1 are DAC select bits. DB2 and DB3 are device address bits. DB4 to DB15 contain the 12-bit data to be loaded to the selected DAC.", 16 CLKIN (in) "Clock Input. Data is clocked into the input shift register on the falling edges of CLKIN. Add a pull-down resistor on the clock line to avoid timing issues.", 17 A1 (in) "Device address pin. This input in association with A0 gives the device an address. If DB2 and DB3 of the serial input stream do not correspond to this address, the data which follows is ignored and not loaded to any input (See Datasheet)", 18 A0 (in) "Device address pin. This input in association with A1 gives the device an address.", 19 VREFA (in) "DAC A reference input.", 20 RFBA (in) "Feedback resistor for DAC A.", 21 IOUT1A (out) "IOUT1 terminal for DAC A.", 22 IOUT2A "IOUT2 terminal for DAC A. This should normally connect to the signal ground of the system.", 23 VREFB (in) "DAC B reference input.", 24 RFBB (in) "Feedback resistor for DAC B.", 25 IOUT1B (out) "IOUT1 terminal for DAC B.", 26 N/C "No Connect pin.", 27 AGND (power) "This pin connects to the back gates of the current steering switches. It should be connected to the signal ground of the system.", 28 IOUT2B "IOUT2 terminal for DAC B. This should normally connect to the signal ground of the system."